# EAGLE library part RELE_G5V1 (library #PaJa_30)
RELE - 1x prepinaci, 12V, 24V max. spinany proud = 1A
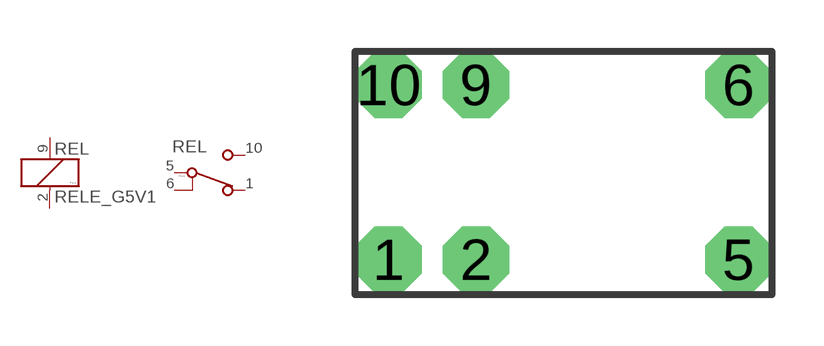
[diagram p47: symbol with the pads of REL_G5V1; footprint REL_G5V1]

Designator prefix REL; gates C=RELE P=RELE_PRE2

## RELE_G5V1  [REL_G5V1]
1  P:NC  pas
2  C:C2  pas
5  P:COM  pas
6  P:COM2  pas
9  C:C1  pas
10  P:NO  pas

## Footprint REL_G5V1 (pad centres in mm)
drill 0.813 pad 1.93 octagon: 1 -5.08,-2.54; 2 -2.54,-2.54; 5 5.08,-2.54; 6 5.08,2.54; 9 -2.54,2.54; 10 -5.08,2.54